# Altium schematic symbol library XP_8P.Schlib: 1 symbol
Pins are listed as number, name and electrical type; pins without a type are passive.

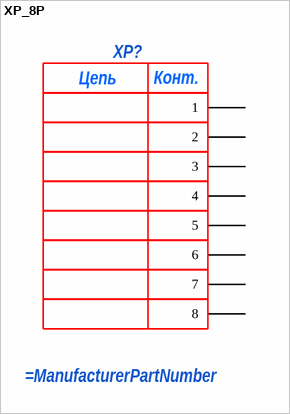
[diagram p0: symbol XP_8P]

## XP_8P
designator XP?
pins: 1, 2, 3, 4, 5, 6, 7, 8
text: Цепь; Конт.